# Altium schematic symbol library FCD9N60NTM.Schlib: 1 symbol
Pins are listed as number, name and electrical type; pins without a type are passive.

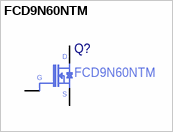
[diagram p0: symbol FCD9N60NTM]

## FCD9N60NTM
designator Q?
Manufacturer Part Number: FCD9N60NTM
pins: 1 G, 3 S, 4 D